# EAGLE library part HXS_20-NP_SP30 (library HXS_20-NP_SP30)
Open Loop Hall Effect Current Transducer, ??60 A, 5 V Source: Datasheet <http://www.lem.com/docs/products/hxs_20-np_sp30.pdf>
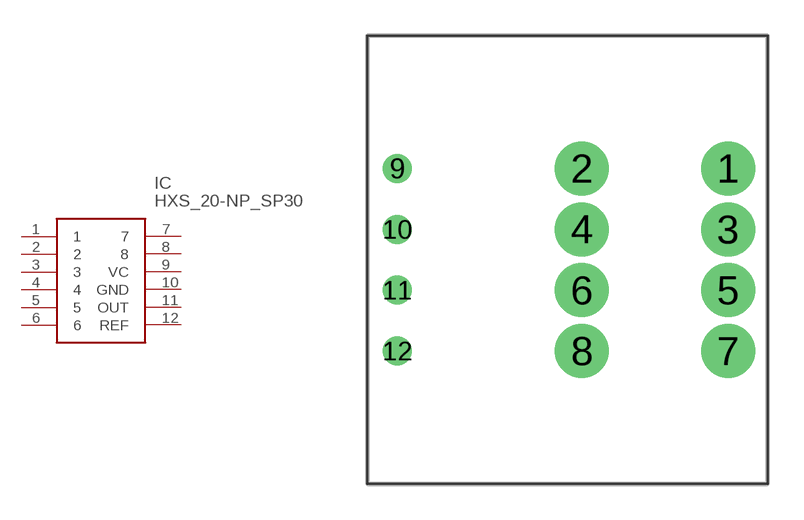
[diagram p0: symbol with the pads of HXS_20-NP/SP30; footprint HXS_20-NP/SP30]

Designator prefix IC

## HXS_20-NP_SP30 (Allied_Number: R1039471; Allied_Price-Stock: http://www.alliedelec.com/lem-hxs-20-np-sp30/R1039471/; Description: Open Loop Hall Effect Current Transducer, ??60 A, 5 V; Height: mm; Manufacturer_Name: LEM; Manufacturer_Part_Number: HXS 20-NP/SP30; RS_Part_Number: 5329110; RS_Price-Stock: http://uk.rs-online.com/web/p/products/5329110)  [HXS_20-NP/SP30]
1  1
2  2
3  3
4  4
5  5
6  6
7  7
8  8
9  VC
10  GND  pwr
11  OUT  out
12  REF  in

## Footprint HXS_20-NP/SP30 (pad centres in mm)
HXS 20-NP/SP30
drill 1.5 pad 2: 1 0,0; 2 -6.1,0; 3 0,-2.54; 4 -6.1,-2.54; 5 0,-5.08; 6 -6.1,-5.08; 7 0,-7.62; 8 -6.1,-7.62
drill 0.7 pad 1.2: 9 -13.8,0; 10 -13.8,-2.54; 11 -13.8,-5.08; 12 -13.8,-7.62